# EAGLE library part 750510041 (library Wurth Electronics Midcom Inc V1-0)
Package Style: EP13 THT Mounting: THT Pins: 10 pins Bobbin: 070-4370 Windings Primary: Aux: Secondary: Best pinouts for production vary per application. Please contact Wurth Electronics Midcom, Inc. for assistance with your custom design. Datasheet: 750510041 <http://www.we-online.com/web/en/index.php/show/media/passive_components_-_custom_magnetics/pdf_doc_files/spec_sheets/7505/750510041.pdf> Website: Wurth Electronics Midcom <http://www.we-online.com/midcom> Contact us Wurth Electronics Midcom, Inc. 121 Airport Dr. Watertown, SD 57201 Phone: (605) 886-4385 Fax: (605) 886-4486 E-Mail: midcom@we-online.com
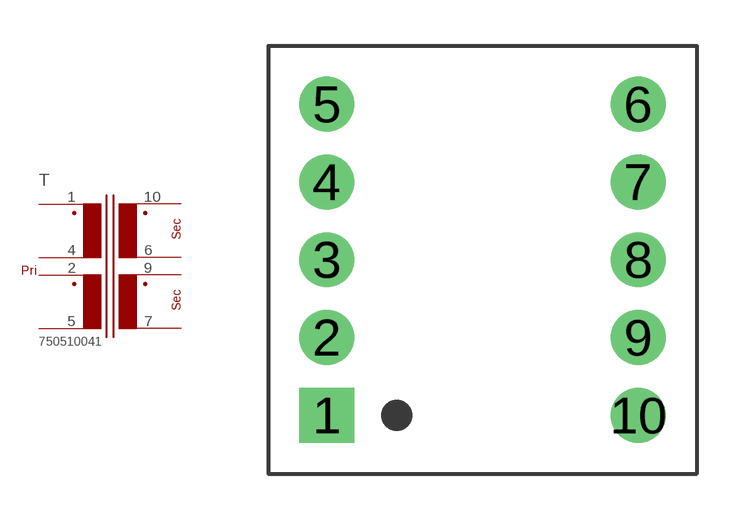
[diagram p70: symbol with the pads of 750510041; footprint 750510041]

Designator prefix T

## 750510041  [750510041]
1  4  pas
2  2  pas
4  3  pas
5  1  pas
6  9  pas
7  5  pas
9  8  pas
10  10  pas

## Footprint 750510041 (pad centres in mm)
Package Style: Non Standard EP13 THT Mounting: THT Pins: 10
drill 1.194 square: 1 -5.08,-5.08
drill 1.194 round: 2 -5.08,-2.54; 3 -5.08,0; 4 -5.08,2.54; 5 -5.08,5.08; 6 5.08,5.08; 7 5.08,2.54; 8 5.08,0; 9 5.08,-2.54; 10 5.08,-5.08